# Altium schematic symbol library Schlib1.SchLib: 1 symbol
Pins are listed as number, name and electrical type; pins without a type are passive.

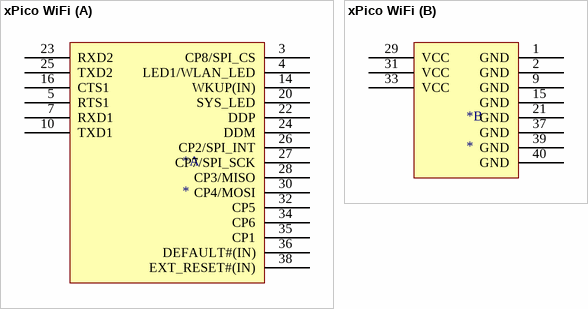
[diagram p0: symbol xPico WiFi]

## xPico WiFi
designator *
footprint PCBComponent_1
part A pins: 3 CP8/SPI_CS, 4 LED1/WLAN_LED, 5 RTS1, 7 RXD1, 10 TXD1, 14 WKUP(IN), 16 CTS1, 20 SYS_LED, 22 DDP, 23 RXD2, 24 DDM, 25 TXD2, 26 CP2/SPI_INT, 27 CP7/SPI_SCK, 28 CP3/MISO, 30 CP4/MOSI, 32 CP5, 34 CP6, 35 CP1, 36 DEFAULT#(IN), 38 EXT_RESET#(IN)
part B pins: 1 GND, 2 GND, 9 GND, 15 GND, 21 GND, 29 VCC, 31 VCC, 33 VCC, 37 GND, 39 GND, 40 GND